# Altium footprint library BEAGLEBONE.PcbLib: 1 footprints
Each footprint in its own frame and in the unit in brackets; x right, y up, seen from the top. Pads: shape width x height; smd on the part's side, far side on the other; paste and mask are expansions set on the pad; w line width, h text height; cw(c..) or ccw(c..) is an arc to the next point about the centre after c.
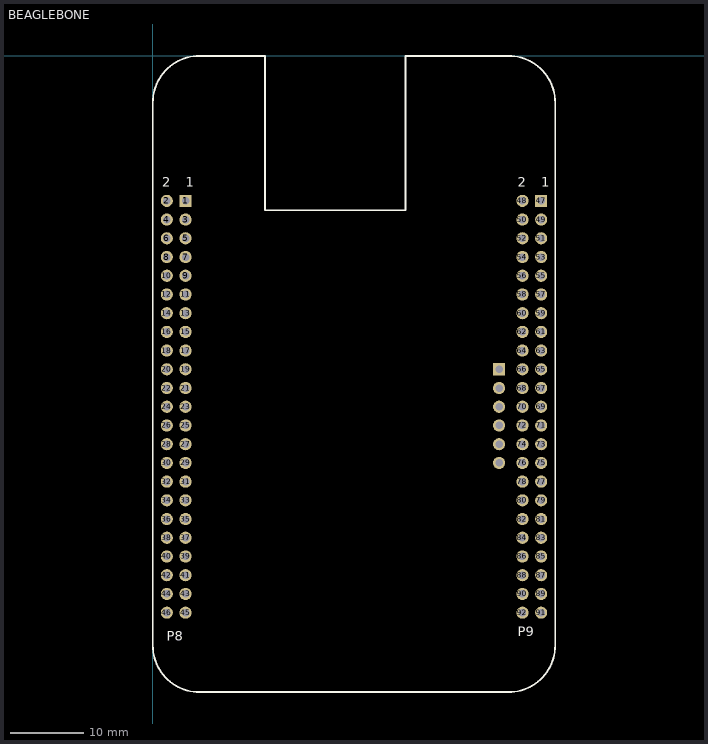
[diagram p0: the footprint, top view; thin cyan lines are the x and y axes]

## BEAGLEBONE [mil] "Pin-header footprint for Beaglebone single board computers"
pads (98):
  rect 65x65 hole 40: 1(175,-775) 47(2075,-775) J1_1(1850,-1675)
  round 65 hole 40: 2(75,-775) 3(175,-875) 4(75,-875) 5(175,-975) 6(75,-975) 7(175,-1075) 8(75,-1075) 9(175,-1175) 10(75,-1175) 11(175,-1275) 12(75,-1275) 13(175,-1375) 14(75,-1375) 15(175,-1475) 16(75,-1475) 17(175,-1575) 18(75,-1575) 19(175,-1675) 20(75,-1675) 21(175,-1775) 22(75,-1775) 23(175,-1875) 24(75,-1875) 25(175,-1975) 26(75,-1975) 27(175,-2075) 28(75,-2075) 29(175,-2175) 30(75,-2175) 31(175,-2275) 32(75,-2275) 33(175,-2375) 34(75,-2375) 35(175,-2475) 36(75,-2475) 37(175,-2575) 38(75,-2575) 39(175,-2675) 40(75,-2675) 41(175,-2775) 42(75,-2775) 43(175,-2875) 44(75,-2875) 45(175,-2975) 46(75,-2975) 48(1975,-775) 49(2075,-875) 50(1975,-875) 51(2075,-975) 52(1975,-975) 53(2075,-1075) 54(1975,-1075) 55(2075,-1175) 56(1975,-1175) 57(2075,-1275) 58(1975,-1275) 59(2075,-1375) 60(1975,-1375) 61(2075,-1475) 62(1975,-1475) 63(2075,-1575) 64(1975,-1575) 65(2075,-1675) 66(1975,-1675) 67(2075,-1775) 68(1975,-1775) 69(2075,-1875) 70(1975,-1875) 71(2075,-1975) 72(1975,-1975) 73(2075,-2075) 74(1975,-2075) 75(2075,-2175) 76(1975,-2175) 77(2075,-2275) 78(1975,-2275) 79(2075,-2375) 80(1975,-2375) 81(2075,-2475) 82(1975,-2475) 83(2075,-2575) 84(1975,-2575) 85(2075,-2675) 86(1975,-2675) 87(2075,-2775) 88(1975,-2775) 89(2075,-2875) 90(1975,-2875) 91(2075,-2975) 92(1975,-2975) J1_2(1850,-1775) J1_3(1850,-1875) J1_4(1850,-1975) J1_5(1850,-2075) J1_6(1850,-2175)
Top Overlay:
  lines w10: 0,-3150 ccw(c250,-3150) 250,-3400 1900,-3400 ccw(c1900,-3150) 2150,-3150 2150,-250 ccw(c1900,-250) 1900,0 1350,0 1350,-825 600,-825 600,0 250,0 ccw(c250,-250) 0,-250 0,-3150
  text "1" at 2075,-700 h50
  text "2" at 1950,-700 h50
  text "2" at 50,-700 h50
  text "1" at 175,-700 h50
  text "P8" at 75,-3125 h50
  text "P9" at 1950,-3100 h50
3D body "socket_6x1_100mil.SLDPRT": height 328.74, standoff -127.95, extent 1800.79,-2225.79 1899.22,-1625.79
3D body "hddr_male_23x2.SLDPRT": height 336.22, standoff -118.11, extent 1924.8,-3024.8 2124.8,-724.8
3D body "hddr_male_23x2.SLDPRT": height 336.22, standoff -118.11, extent 25.59,-3024.8 225.59,-724.8